# Altium footprint library DXPpcb.PCBLIB: 575 footprints (part 29 of 36)
Each footprint in its own frame and in the unit in brackets; x right, y up, seen from the top. Pads: shape width x height; smd on the part's side, far side on the other; paste and mask are expansions set on the pad; w line width, h text height; cw(c..) or ccw(c..) is an arc to the next point about the centre after c.
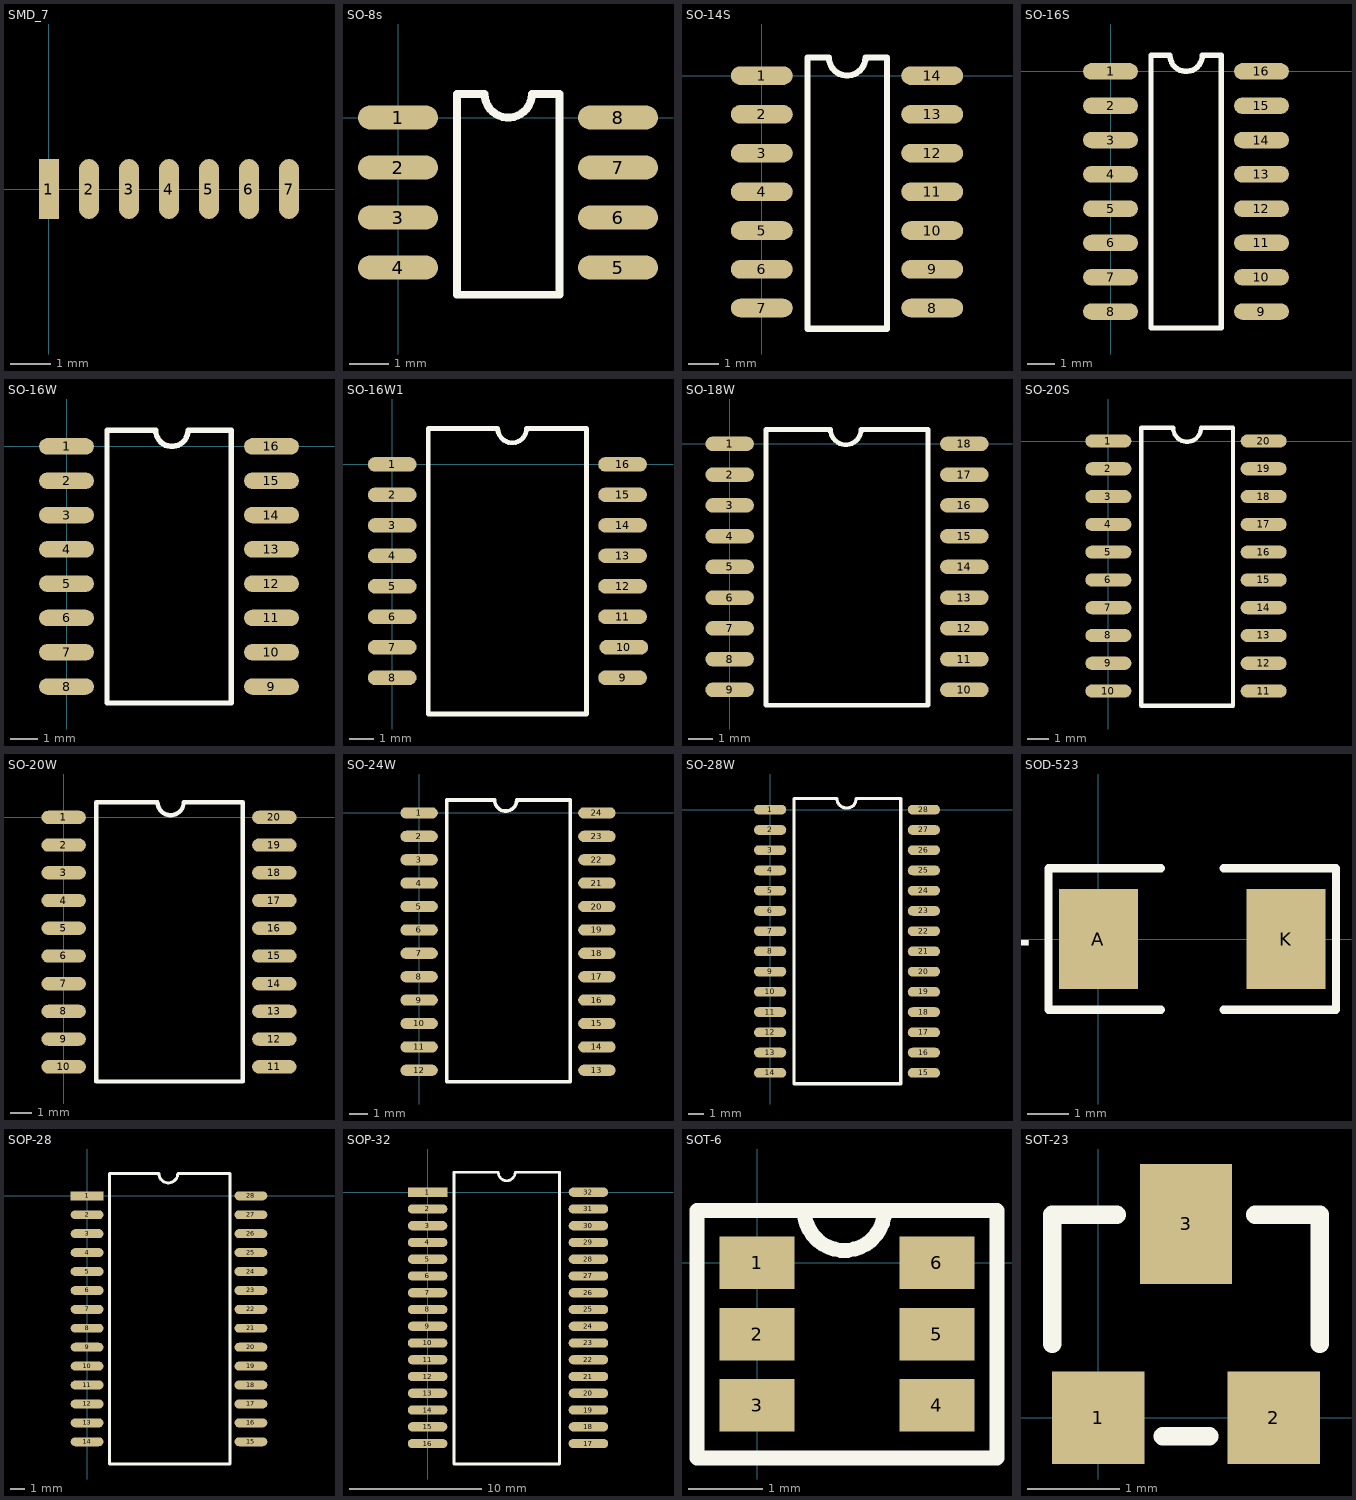
[diagram p28: the footprints below, top view; thin cyan lines are the x and y axes]

## SMD_7 [mm]
pads (14):
  rect 0.5x1.5 smd: 1(0,0)
  oval 0.5x1.5 smd: 2(1,0) 3(2,0) 4(3,0) 5(4,0) 6(5,0) 7(6,0)
  rect 0x0 smd far side: ""(0,0)
  round 0 smd far side: ""(1,0) ""(2,0) ""(3,0) ""(4,0) ""(5,0) ""(6,0)

## SO-8s [mil]
pads (8):
  oval 80x24 smd: 1(0,0) 2(0,-50) 3(0,-100) 4(0,-150) 5(220,-150) 6(220,-100) 7(220,-50) 8(220,0)
TopOverlay:
  lines w7.87: 59.06,-177.17 161.42,-177.17 161.42,23.62 133.86,23.62 cw(c110.24,23.62) 86.61,23.62 59.06,23.62 59.06,-177.17

## SO-14S [mil]
pads (14):
  oval 80x24 smd: 1(0,0) 2(0,-50) 3(0,-100) 4(0,-150) 5(0,-200) 6(0,-250) 7(0,-300) 8(220,-300) 9(220,-250) 10(220,-200) 11(220,-150) 12(220,-100) 13(220,-50) 14(220,0)
TopOverlay:
  lines w7.87: 59.06,-326.77 161.42,-326.77 161.42,23.62 133.86,23.62 cw(c110.24,23.62) 86.61,23.62 59.06,23.62 59.06,-326.77

## SO-16S [mil]
pads (16):
  oval 80x24 smd: 1(0,0) 2(0,-50) 3(0,-100) 4(0,-150) 5(0,-200) 6(0,-250) 7(0,-300) 8(0,-350) 9(220,-350) 10(220,-300) 11(220,-250) 12(220,-200) 13(220,-150) 14(220,-100) 15(220,-50) 16(220,0)
TopOverlay:
  lines w7.87: 59.06,-374.02 59.06,23.62 86.61,23.62 ccw(c110.24,23.62) 133.86,23.62 161.42,23.62 161.42,-374.02 59.06,-374.02

## SO-16W [mil]
pads (16):
  oval 80x24 smd: 1(0,0) 2(0,-50) 3(0,-100) 4(0,-150) 5(0,-200) 6(0,-250) 7(0,-300) 8(0,-350) 9(298.74,-350) 10(298.74,-300) 11(298.74,-250) 12(298.74,-200) 13(298.74,-150) 14(298.74,-100) 15(298.74,-50) 16(298.74,0)
TopOverlay:
  lines w7.87: 59.06,-374.02 59.06,23.62 129.92,23.62 ccw(c153.54,23.62) 177.17,23.62 240.16,23.62 240.16,-374.02 59.06,-374.02

## SO-16W1 [mil]
pads (16):
  oval 80x24 smd: 1(0,0) 2(0,-50) 3(0,-100) 4(0,-150) 5(0,-200) 6(0,-250) 7(0,-300) 8(0,-350) 9(377.95,-350) 10(380,-300) 11(377.95,-250) 12(377.95,-200) 13(377.95,-150) 14(377.95,-100) 15(377.95,-50) 16(377.95,0)
TopOverlay:
  lines w7.87: 59.06,-409.45 59.06,59.06 173.23,59.06 ccw(c196.85,59.06) 220.47,59.06 318.9,59.06 318.9,-409.45 59.06,-409.45

## SO-18W [mm]
pads (18):
  oval 2x0.6 smd: 1(0,0) 2(0,-1.27) 3(0,-2.54) 4(0,-3.81) 5(0,-5.08) 6(0,-6.35) 7(0,-7.62) 8(0,-8.89) 9(0,-10.16) 10(9.7,-10.16) 11(9.7,-8.89) 12(9.7,-7.62) 13(9.7,-6.35) 14(9.7,-5.08) 15(9.7,-3.81) 16(9.7,-2.54) 17(9.7,-1.27) 18(9.7,0)
TopOverlay:
  lines w0.2: 1.5,-10.8 8.2,-10.8 8.2,0.6 5.435,0.6 cw(c4.8,0.6) 4.165,0.6 1.5,0.6 1.5,-10.8

## SO-20S [mm]
pads (20):
  oval 2.1x0.6 smd: 1(0,0) 2(0,-1.27) 3(0,-2.54) 4(0,-3.81) 5(0,-5.08) 6(0,-6.35) 7(0,-7.62) 8(0,-8.89) 9(0,-10.16) 10(0,-11.43) 11(7.1,-11.43) 12(7.1,-10.16) 13(7.1,-8.89) 14(7.1,-7.62) 15(7.1,-6.35) 16(7.1,-5.08) 17(7.1,-3.81) 18(7.1,-2.54) 19(7.1,-1.27) 20(7.1,0)
TopOverlay:
  lines w0.2: 1.5,-12.1 5.7,-12.1 5.7,0.6 4.235,0.6 cw(c3.6,0.6) 2.965,0.6 1.5,0.6 1.5,-12.1

## SO-20W [mil]
pads (20):
  oval 80x24 smd: 1(0,0) 2(0,-50) 3(0,-100) 4(0,-150) 5(0,-200) 6(0,-250) 7(0,-300) 8(0,-350) 9(0,-400) 10(0,-450) 11(380,-450) 12(380,-400) 13(380,-350) 14(380,-300) 15(380,-250) 16(380,-200) 17(380,-150) 18(380,-100) 19(380,-50) 20(380,0)
TopOverlay:
  lines w7.87: 59.06,-476.38 322.83,-476.38 322.83,27.56 216.54,27.56 cw(c192.91,27.56) 169.29,27.56 59.06,27.56 59.06,-476.38

## SO-24W [mil]
pads (24):
  oval 80x24 smd: 1(0,0) 2(0,-50) 3(0,-100) 4(0,-150) 5(0,-200) 6(0,-250) 7(0,-300) 8(0,-350) 9(0,-400) 10(0,-450) 11(0,-500) 12(0,-550) 13(380,-550) 14(380,-500) 15(380,-450) 16(380,-400) 17(380,-350) 18(380,-300) 19(380,-250) 20(380,-200) 21(380,-150) 22(380,-100) 23(380,-50) 24(380,0)
TopOverlay:
  lines w7.87: 59.06,-574.8 322.83,-574.8 322.83,27.56 208.66,27.56 cw(c185.04,27.56) 161.42,27.56 59.06,27.56 59.06,-574.8

## SO-28W [mil]
pads (28):
  oval 80x24 smd: 1(0,0) 2(0,-50) 3(0,-100) 4(0,-150) 5(0,-200) 6(0,-250) 7(0,-300) 8(0,-350) 9(0,-400) 10(0,-450) 11(0,-500) 12(0,-550) 13(0,-600) 14(0,-650) 15(380,-650) 16(380,-600) 17(380,-550) 18(380,-500) 19(380,-450) 20(380,-400) 21(380,-350) 22(380,-300) 23(380,-250) 24(380,-200) 25(380,-150) 26(380,-100) 27(380,-50) 28(380,0)
TopOverlay:
  lines w7.87: 59.06,-677.17 59.06,27.56 165.35,27.56 ccw(c188.98,27.56) 212.6,27.56 322.83,27.56 322.83,-677.17 59.06,-677.17

## SOD-523 [mm]
pads (2):
  rect 1.9x2.4 smd: A(0,0) K(4.5,0)
TopOverlay:
  lines w0.2: 1.5,-1.7 -1.2,-1.7 -1.2,1.7 1.5,1.7 ; 3,-1.7 5.7,-1.7 5.7,1.7 3,1.7
  text "+" at -1.5,-0.6 h1.2

## SOP-28 [mm]
pads (28):
  rect 2.2x0.6 smd: 1(0,0)
  oval 2.2x0.6 smd: 2(0,-1.27) 3(0,-2.54) 4(0,-3.81) 5(0,-5.08) 6(0,-6.35) 7(0,-7.62) 8(0,-8.89) 9(0,-10.16) 10(0,-11.43) 11(0,-12.7) 12(0,-13.97) 13(0,-15.24) 14(0,-16.51) 15(11,-16.51) 16(11,-15.24) 17(11,-13.97) 18(11,-12.7) 19(11,-11.43) 20(11,-10.16) 21(11,-8.89) 22(11,-7.62) 23(11,-6.35) 24(11,-5.08) 25(11,-3.81) 26(11,-2.54) 27(11,-1.27) 28(11,0)
TopOverlay:
  lines w0.2: 1.491,-17.999 1.491,1.501 4.821,1.501 ccw(c5.456,1.501) 6.091,1.501 9.591,1.501 9.591,-17.999 1.491,-17.999

## SOP-32 [mm]
pads (32):
  rect 3x0.7 smd: 1(0,0)
  oval 3x0.7 smd: 2(0,-1.27) 3(0,-2.54) 4(0,-3.81) 5(0,-5.08) 6(0,-6.35) 7(0,-7.62) 8(0,-8.89) 9(0,-10.16) 10(0,-11.43) 11(0,-12.7) 12(0,-13.97) 13(0,-15.24) 14(0,-16.51) 15(0,-17.78) 16(0,-19.05) 17(12.192,-19.05) 18(12.192,-17.78) 19(12.192,-16.51) 20(12.192,-15.24) 21(12.192,-13.97) 22(12.192,-12.7) 23(12.192,-11.43) 24(12.192,-10.16) 25(12.192,-8.89) 26(12.192,-7.62) 27(12.192,-6.35) 28(12.192,-5.08) 29(12.192,-3.81) 30(12.192,-2.54) 31(12.192,-1.27) 32(12.192,0)
TopOverlay:
  lines w0.2: 6.635,1.5 cw(c6,1.5) 5.365,1.5 2,1.5 2,-20.6 10,-20.6 10,1.5 6.7,1.5

## SOT-6 [mm]
pads (6):
  rect 1x0.7 smd: 1(0,0) 2(0,-0.95) 3(0,-1.9) 4(2.4,-1.9) 5(2.4,-0.95) 6(2.4,0)
TopOverlay:
  lines w0.2: 0.631,0.7 ccw(c1.165,0.7) 1.7,0.7 ; -0.8,-2.6 -0.8,0.7 3.2,0.7 3.2,-2.6 -0.8,-2.6

## SOT-23 [mm]
pads (3):
  rect 1x1 smd: 1(0,0) 2(1.9,0)
  rect 1x1.3 smd: 3(0.95,2.1)
TopOverlay:
  lines w0.2: -0.5,0.8 -0.5,2.2 0.2,2.2 ; 0.7,-0.2 1.2,-0.2 ; 1.7,2.2 2.4,2.2 2.4,0.8